# Altium footprint library SMA.PcbLib: 1 footprints
Each footprint in its own frame and in the unit in brackets; x right, y up, seen from the top. Pads: shape width x height; smd on the part's side, far side on the other; paste and mask are expansions set on the pad; w line width, h text height; cw(c..) or ccw(c..) is an arc to the next point about the centre after c.
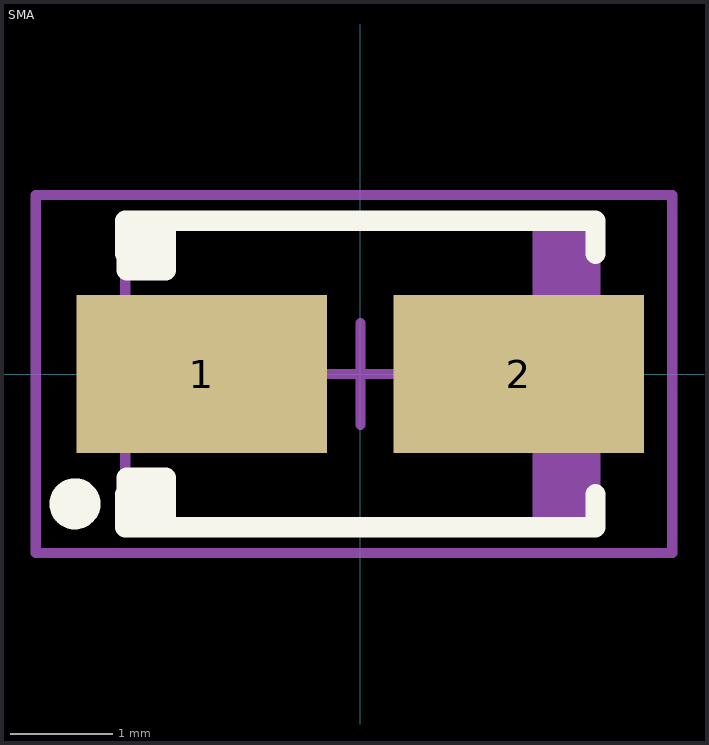
[diagram p0: the footprint, top view; thin cyan lines are the x and y axes]

## SMA [mm] "Molded Diode, 2-Leads, Body 4.3x2.6mm, IPC Medium Density"
height 2.45
pads (2):
  rect 2.45x1.55 smd: 1(-1.55,0) 2(1.55,0)
Top Overlay:
  circle w0.25: c-2.792,-1.27 r0.125
  lines w0.2: -2.3,-1.175 -2.3,-1.5 2.3,-1.5 2.3,-1.175 ; -2.3,1.175 -2.3,1.5 2.3,1.5 2.3,1.175 ; -2.286,1.27 -2.286,1.016 -2.032,1.016 ; -2.159,-1.143 -2.159,-1.397 -2.286,-1.27 -2.286,-1.397 -2.286,-1.016 -2.032,-1.016 ; -2.159,1.143 -2.159,1.397 -2.032,1.27 ; -2.032,-1.397 -2.032,-1.016 ; -2.032,1.397 -2.032,1.27 ; -1.905,-1.397 -1.905,-1.016 -2.032,-1.016 ; -1.905,1.397 -1.905,1.016 -2.032,1.016 ; -2.032,1.016 -2.032,1.27
Mechanical 13:
  region: 2.3,1.45 1.681,1.45 1.681,-1.45 2.3,-1.45
  lines w0.1: -2.3,-1.45 -2.3,1.45 2.3,1.45 2.3,-1.45 -2.3,-1.45
Mechanical 15:
  lines w0.1: -0.5,0 0.5,0 ; 0,-0.5 0,0.5 ; -3.175,-1.75 -3.175,1.75 3.05,1.75 3.05,-1.75 -3.175,-1.75
3D body: height 2.45, standoff 0, extent -2.3,-1.45 2.3,1.45